# Altium schematic symbol library Condensator1µF.SchLib: 1 symbol
Pins are listed as number, name and electrical type; pins without a type are passive.

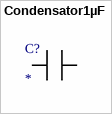
[diagram p0: symbol Condensator1µF]

## Condensator1µF
designator C?
footprint CAPC1812X18M (Chip Capacitor, 2-Leads, Body 4.50x3.10mm, IPC Low Density)
pins: 1 (power), 2 (power)